# Altium schematic symbol library DEEP.SchLib: 11 symbols
Pins are listed as number, name and electrical type; pins without a type are passive.

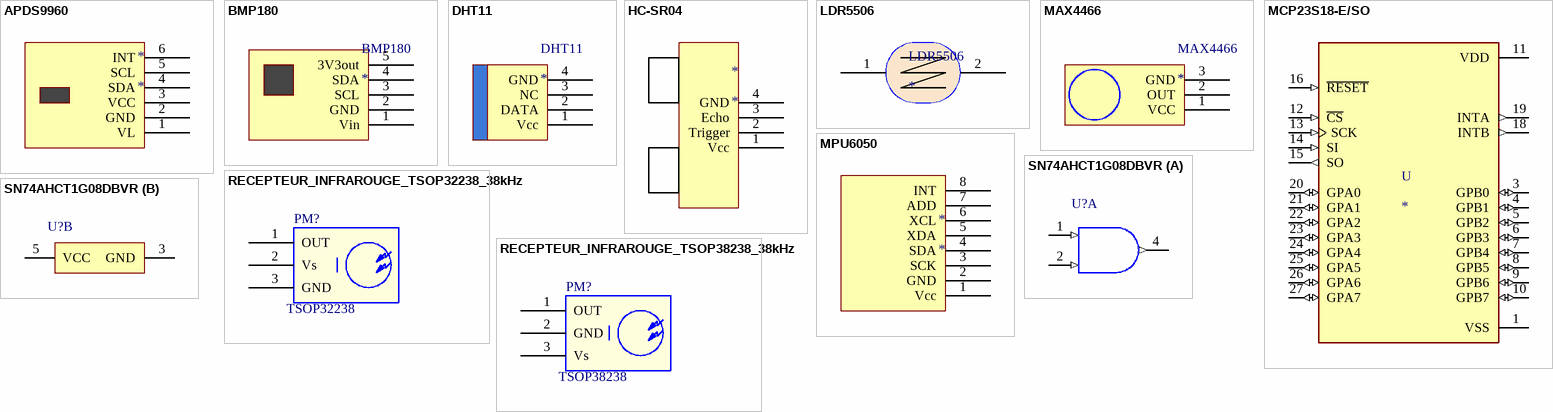
[diagram p0: symbols APDS9960 to SN74AHCT1G08DBVR]

## APDS9960
designator *
footprint APDS9960
pins: 1 VL, 2 GND, 3 VCC, 4 SDA, 5 SCL, 6 INT

## BMP180
designator BMP180
footprint BMP180
pins: 1 Vin, 2 GND, 3 SCL, 4 SDA, 5 3V3out

## DHT11
designator DHT11
footprint DHT11 (Footprint not found)
pins: 1 Vcc, 2 DATA, 3 NC, 4 GND

## HC-SR04
designator *
footprint HC-SR04 (HC-SR04 ; Telemetre UltraSon ; BARRETTE 4 CONTACTS ; 1 RANGEE ; DROITE ; FEMELLE ; ESPACEMENT BROCHES = 2.54 mm)
pins: 1 Vcc, 2 Trigger, 3 Echo, 4 GND

## LDR5506
designator LDR5506
footprint LDR5506
pins: 1, 2

## MAX4466
designator MAX4466
footprint MAX4466
pins: 1 VCC, 2 OUT, 3 GND

## MCP23S18-E/SO
designator U
MCP23S18 Series 5.5 V 10 MHz 16-Bit I/O Expander with Open-Drain Output -SOIC-28; MF: Microchip; MP: MCP23S18-E/SO; SnapEDA_Link: https://www.snapeda.com/parts/MCP23S18-E/SO/Microchip/view-part/331985/?ref=snap; Price: None; Availability: Unavailable; Value: *; Package: SOIC-28 Microchip
footprint SOIC127P1030X265-28N
pins: 1 VSS (power), 3 GPB0 (io), 4 GPB1 (io), 5 GPB2 (io), 6 GPB3 (io), 7 GPB4 (io), 8 GPB5 (io), 9 GPB6 (io), 10 GPB7 (io), 11 VDD (power), 12 ~{CS} (in), 13 SCK (in), 14 SI (in), 15 SO (out), 16 ~{RESET} (in), 18 INTB (out), 19 INTA (out), 20 GPA0 (io), 21 GPA1 (io), 22 GPA2 (io), 23 GPA3 (io), 24 GPA4 (io), 25 GPA5 (io), 26 GPA6 (io), 27 GPA7 (io)

## MPU6050
designator *
footprint MPU6050
pins: 1 Vcc, 2 GND, 3 SCK, 4 SDA, 5 XDA, 6 XCL, 7 ADD, 8 INT

## RECEPTEUR_INFRAROUGE_TSOP32238_38kHz
designator PM?, comment TSOP32238
RECEPTEUR_INFRAROUGE_TSOP32238_38kHz; Type: TSOP32238
footprint TSOP32238 (Footprint not found)
pins: 1 OUT, 2 Vs, 3 GND

## RECEPTEUR_INFRAROUGE_TSOP38238_38kHz
designator PM?, comment TSOP38238
RECEPTEUR_INFRAROUGE_TSOP38238_38kHz; Type: TSOP38238
footprint tsop38238 (TSOP38238)
pins: 1 OUT, 2 GND, 3 Vs

## SN74AHCT1G08DBVR
designator U?
Single 2-Input Positive-AND Gate, DBV0005A, LARGE T&R; Generic Part Number: SN74AHCT1G08; Manufacturer: Texas Instruments; PartNumber: SN74AHCT1G08DBVR; VCC(Min)(V): 2; VCC(Max)(V): 5.5; Output Type: CMOS; ICC @ Nom Voltage(Max)(mA): 0.01; Bits(#): 1; F @ Nom Voltage(Max)(Mhz): 75; Rating: Catalog; Technology Family: AHCT; Voltage(Nom)(V): 5; Schmitt Trigger: No; Output Drive (IOL/IOH)(Max)(mA): 8/-8; tpd @ Nom Voltage(Max)(ns): 7.1; Logic: True; Gate Type: AND; DatasheetVersion: SCLS315P; PackageReference: DBV0005A; Supplier 1: Mouser; Supplier Part Number 1: 595-SN74AHCT1G08DBVR; Supplier 2: Digi-Key; Supplier Part Number 2: 296-1113-2-ND; Supplier 3: Digi-Key; Supplier Part Number 3: 296-1113-1-ND; Supplier 4: Digi-Key; Supplier Part Number 4: 296-1113-6-ND; Input Type: CMOS; Operating Temperature Range(C): -40 to 125; Sub-Family: AND Gate; 3-State Output: No; ComponentLink1Description: Manufacturer URL; ComponentLink1URL: http://www.ti.com/; ComponentLink2Description: Datasheet; ComponentLink2URL: http://www.ti.com/lit/ds/symlink/sn74ahct1g08.pdf
footprint DBV0005A_N (SOT23, 5-Leads, Body 3.05x1.75mm, Pitch 0.95mm, IPC Medium Density)
part A pins: 1 A (in) "Input A", 2 B (in) "Input B", 4 Y (out) "Output Y"
part B pins: 3 GND (power) "Ground Pin", 5 VCC (power) "Power Pin"